# Altium footprint library OSC-SMD_L5.0-W3.2.PcbLib: 1 footprints
Each footprint in its own frame and in the unit in brackets; x right, y up, seen from the top. Pads: shape width x height; smd on the part's side, far side on the other; paste and mask are expansions set on the pad; w line width, h text height; cw(c..) or ccw(c..) is an arc to the next point about the centre after c.
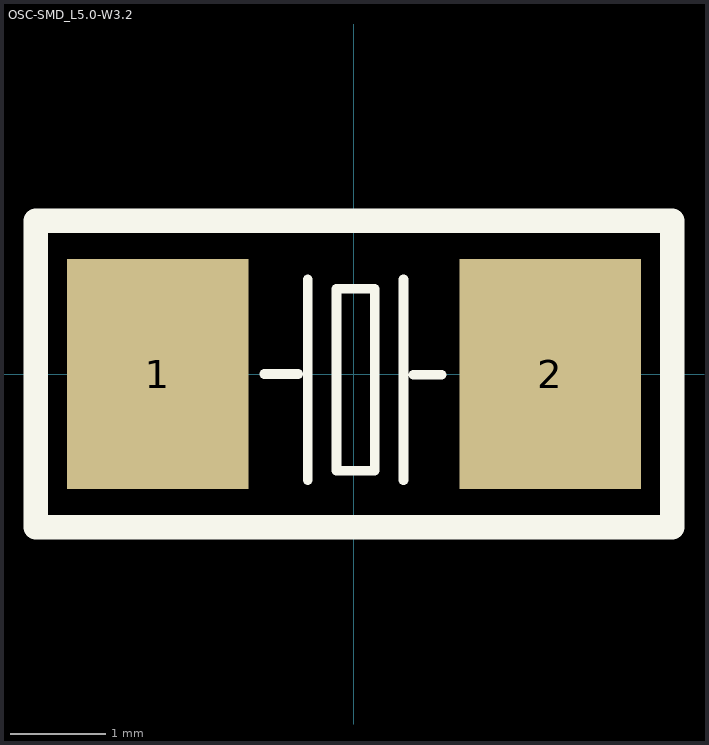
[diagram p0: the footprint, top view; thin cyan lines are the x and y axes]

## OSC-SMD_L5.0-W3.2 [mm]
pads (2):
  rect 1.9x2.4 smd: 1(-2.05,0) 2(2.05,0)
Top Overlay:
  lines w0.1: -0.94,0 -0.584,0 ; -0.483,-1.109 -0.483,0.991 ; 0.517,-1.109 0.517,0.991 ; 0.617,-0.009 0.917,-0.009 ; -0.183,-1.009 -0.183,0.89 0.217,0.89 0.217,-1.009 -0.183,-1.009
  lines w0.254: -3.325,-1.6 3.325,-1.6 3.325,-0.7 3.325,0.7 3.325,1.6 -3.325,1.6 -3.325,0.7 -3.325,-0.7 -3.325,-1.6